# Altium footprint library SA_PcbLib.PcbLib: 3 footprints
Each footprint in its own frame and in the unit in brackets; x right, y up, seen from the top. Pads: shape width x height; smd on the part's side, far side on the other; paste and mask are expansions set on the pad; w line width, h text height; cw(c..) or ccw(c..) is an arc to the next point about the centre after c.
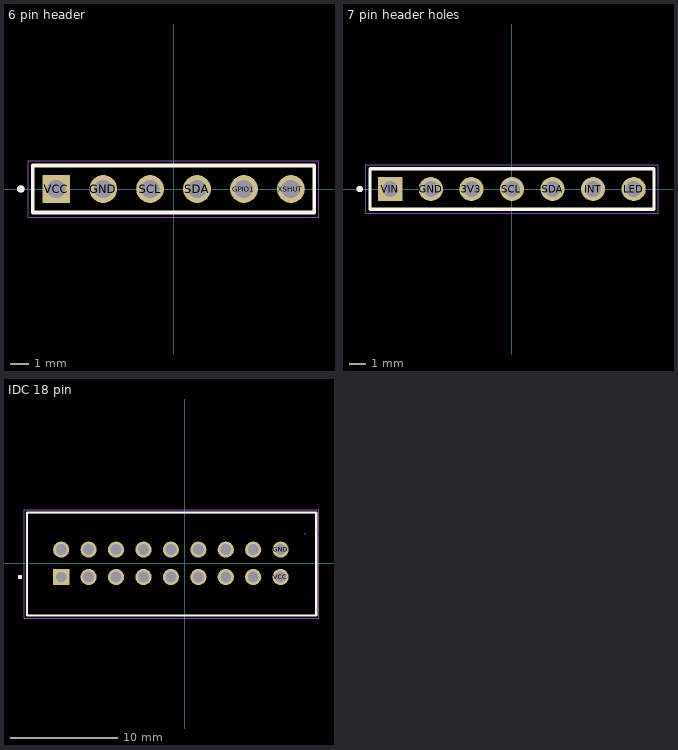
[diagram p0: the footprints below, top view; thin cyan lines are the x and y axes]

## 6 pin header [mm]
pads (6):
  round 1.508 hole 1: GND(-3.81,0) GPIO1(3.81,0) SCL(-1.27,0) SDA(1.27,0) XSHUT(6.35,0)
  rect 1.508x1.508 / inner round 1.508 / far side rect 1.508x1.508 hole 1: VCC(-6.35,0)
Top Overlay:
  circle w0.2: c-8.27,0 r0.1
  lines w0.2: -7.62,-1.27 7.62,-1.27 7.62,1.27 -7.62,1.27 -7.62,-1.27
Mechanical 13:
  circle w0.2: c-8.27,0 r0.1
  lines w0.1: -7.62,-1.27 -7.62,1.27 ; -7.62,-1.27 -7.62,1.27 ; -7.62,-1.27 7.62,-1.27 7.62,1.27 -7.62,1.27
Mechanical 15:
  lines w0.05: -7.87,-1.52 7.874,-1.52 7.874,1.52 -7.87,1.52 -7.87,-1.52
3D body "DS1022_yellow_1x06p_100mil_TypeD_rev1.0.STEP": height 4.53, standoff -5.83, extent -7.62,-4.274 7.62,1.226
3D body "vl53l0x.STEP": height 13.75, standoff 2.76, extent -12.361,-3.778 12.615,-0.778

## 7 pin header holes [mm]
pads (7):
  round 1.508 hole 1: 3V3(-2.54,0) GND(-5.08,0) INT(5.08,0) LED(7.62,0) SCL(0,0) SDA(2.54,0)
  rect 1.508x1.508 / inner round 1.508 / far side rect 1.508x1.508 hole 1: VIN(-7.62,0)
Top Overlay:
  circle w0.2: c-9.54,0 r0.1
  lines w0.2: -8.89,-1.27 -8.89,1.27 8.89,1.27 8.89,-1.27 -8.89,-1.27
Mechanical 13:
  circle w0.2: c-9.54,0 r0.1
  lines w0.1: -8.89,-1.27 8.89,-1.27 8.89,1.27 -8.89,1.27 ; -8.89,-1.27 -8.89,1.27 ; -8.89,-1.27 -8.89,1.27
Mechanical 15:
  lines w0.05: -9.14,-1.52 -9.14,1.52 9.144,1.52 9.144,-1.52 -9.14,-1.52
3D body "TCS34725_RectangularBreakout.step": height 7.01, standoff 5.21, extent -15.585,-1.563 15.585,9.437
3D body "DS1021_black_1x07p_100mil_Type1_rev1.0.STEP": height 8.08, standoff -3.47, extent -8.89,-1.27 8.89,1.23

## IDC 18 pin [mil]
height 235.04
pads (18):
  round 59 hole 39.5: GND(350,50) NULL(250,50) SCL2(-350,-50) SCL3(-250,-50) SCL4(-150,-50) SCL5(-50,-50) SCLTOF(50,-50) SDA1(-450,50) SDA2(-350,50) SDA3(-250,50) SDA4(-150,50) SDA5(-50,50) SDATOF(50,50) VCC(350,-50) XSHUT1(150,-50) XSHUT2(150,50) XSHUT3(250,-50)
  rect 59x59 / inner round 59 / far side rect 59x59 hole 38: SCL1(-450,-50)
Top Overlay:
  circle w7.87: c-600,-50 r3.94
  lines w7.87: -575,-190 -575,185 -287.15,185 480,185 480,55 480,-45 480,-190 -575,-190
Mechanical 13:
  circle w7.87: c-600,-50 r3.94
  lines w3.94: 480,100 480,-190 -575,-190 -575,185 480,185
Mechanical 15:
  lines w1.97: 439.84,-109.84 440,-110 ; 439.84,109.84 439.94,109.94 439.94,105.06 440,105 ; 489.84,-200 489.84,-109.84 ; 489.84,109.84 489.84,195 ; 490,-200 -585,-200 -585,195 490,195 ; 490,-110 490,0 490,105
3D body "18-Pin Shrouded Header IDC Straight.stp": height 364.99, standoff -153.36, extent -575,-192 475,176.94